# Altium footprint library Toshiba NMOS - SOT23-F.PcbLib: 1 footprints
Each footprint in its own frame and in the unit in brackets; x right, y up, seen from the top. Pads: shape width x height; smd on the part's side, far side on the other; paste and mask are expansions set on the pad; w line width, h text height; cw(c..) or ccw(c..) is an arc to the next point about the centre after c.
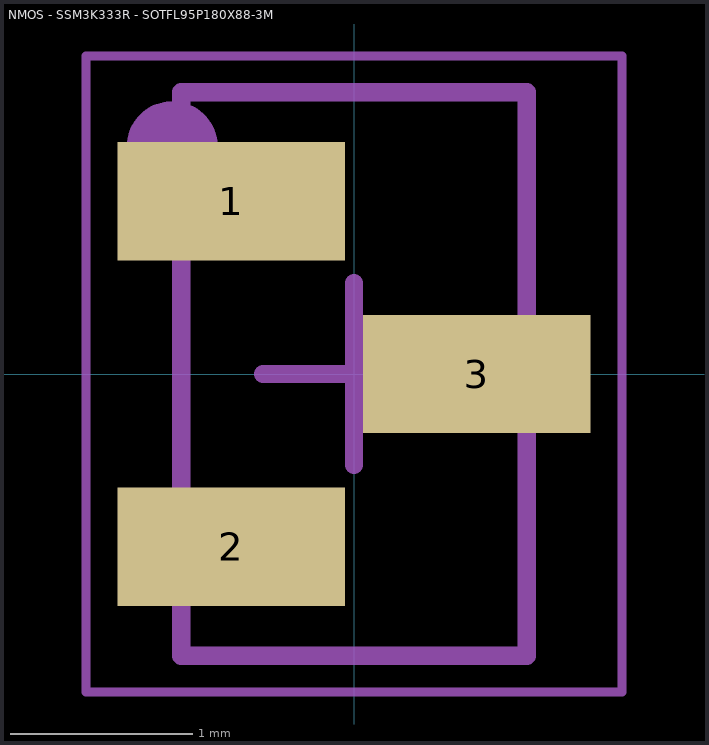
[diagram p0: the footprint, top view; thin cyan lines are the x and y axes]

## NMOS - SSM3K333R - SOTFL95P180X88-3M [mm] "SOTFL, 3-Leads, Body 2.90x1.80mm, Pitch 0.95mm, IPC Low Density"
height 0.88
pads (3):
  rect 1.25x0.65 smd: 1(-0.675,0.95) 2(-0.675,-0.95) 3(0.675,0)
Mechanical 6:
  text "'.Designator'" at 0.3,-1.15 h0.6
Mechanical 8:
  circle w0.25: c-1,1.25 r0.125
  lines w0.05: -1.475,-1.75 1.475,-1.75 1.475,1.75 -1.475,1.75 -1.475,-1.75
Mechanical 13:
  lines w0.1: -0.95,-1.55 -0.95,1.55 0.95,1.55 0.95,-1.55 -0.95,-1.55
Mechanical 15:
  lines w0.05: -1.475,-1.75 -1.475,1.75 1.475,1.75 1.475,-1.75 -1.475,-1.75
  lines w0.1: -0.5,0 0.5,0 ; 0,-0.5 0,0.5
3D body: height 0.88, standoff 0, extent -0.95,-1.55 0.95,1.55